# Altium schematic symbol library ENS160-BGLM.SchLib: 1 symbol
Pins are listed as number, name and electrical type; pins without a type are passive.

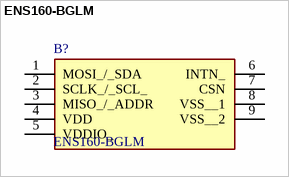
[diagram p0: symbol ENS160-BGLM]

## ENS160-BGLM
designator B?
Air Quality Sensors ENS160-BGLM LGA9 T&R 500; Manufacturer_Name: ScioSense; Geometry.Height: 0.9mm; Mouser Part Number: 135-ENS160-BGLM; Mouser Price/Stock: https://www.mouser.co.uk/ProductDetail/ScioSense/ENS160-BGLM?qs=DRkmTr78QAQKsjT0z3MHoA%3D%3D; Manufacturer_Part_Number: ENS160-BGLM; Datasheet Link: https://www.sciosense.com/wp-content/uploads/documents/SC-001224-DS-6-ENS160-Datasheet-Version-1.0-1.pdf
footprint ENS160BGLM
pins: 1 MOSI_/_SDA, 2 SCLK_/_SCL_, 3 MISO_/_ADDR, 4 VDD, 5 VDDIO_, 6 INTN_, 7 CSN, 8 VSS__1, 9 VSS__2